# EAGLE library part IC54 (library THU VIEN MOI)
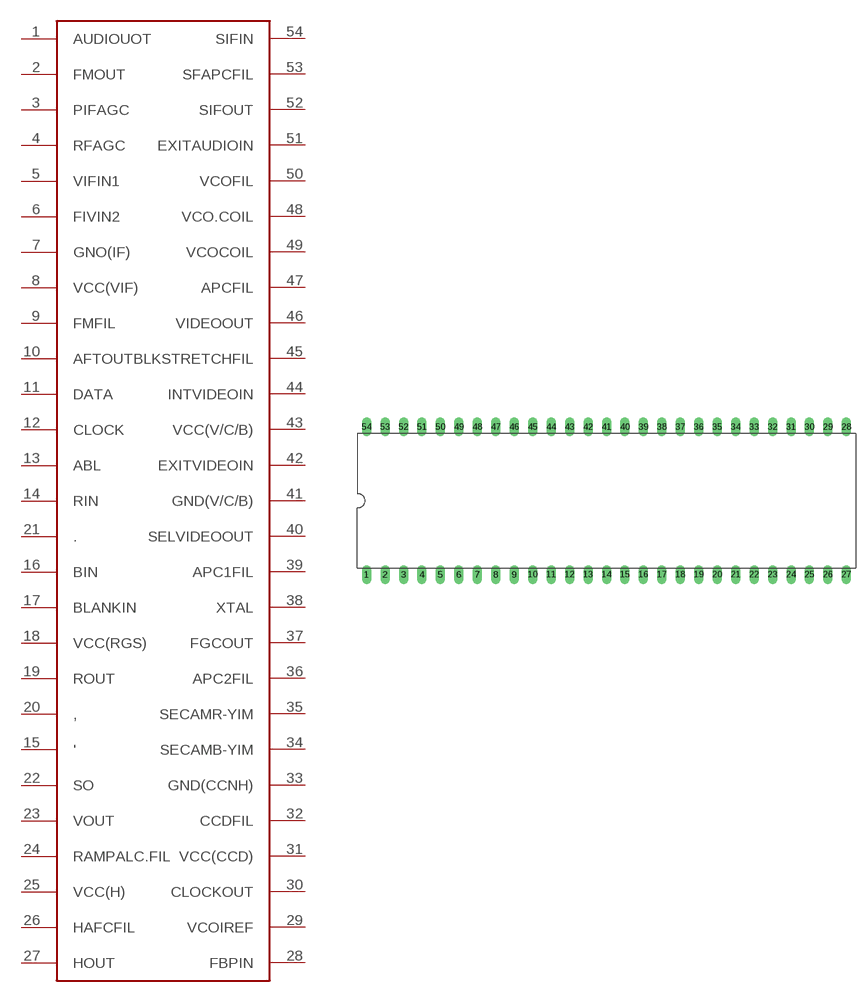
[diagram p0: symbol with the pads of IC54; footprint IC54]

Designator prefix -

## IC54W  [IC54]
1  AUDIOUOT
2  FMOUT
3  PIFAGC
4  RFAGC
5  VIFIN1
6  FIVIN2
7  GNO(IF)
8  VCC(VIF)
9  FMFIL
10  AFTOUT
11  DATA
12  CLOCK
13  ABL
14  RIN
15  '
16  BIN
17  BLANKIN
18  VCC(RGS)
19  ROUT
20  ,
21  .
22  SO
23  VOUT
24  RAMPALC.FIL
25  VCC(H)
26  HAFCFIL
27  HOUT
28  FBPIN
29  VCOIREF
30  CLOCKOUT
31  VCC(CCD)
32  CCDFIL
33  GND(CCNH)
34  SECAMB-YIM
35  SECAMR-YIM
36  APC2FIL
37  FGCOUT
38  XTAL
39  APC1FIL
40  SELVIDEOOUT
41  GND(V/C/B)
42  EXITVIDEOIN
43  VCC(V/C/B)
44  INTVIDEOIN
45  BLKSTRETCHFIL
46  VIDEOOUT
47  APCFIL
48  VCO.COIL
49  VCOCOIL
50  VCOFIL
51  EXITAUDIOIN
52  SIFOUT
53  SFAPCFIL
54  SIFIN

## Footprint IC54 (pad centres in mm)
drill 0.813 long: 1 -11.43,-6.35; 2 -8.89,-6.35; 3 -6.35,-6.35; 4 -3.81,-6.35; 5 -1.27,-6.35; 6 1.27,-6.35; 7 3.81,-6.35; 48 3.81,13.97; 49 1.27,13.97; 50 -1.27,13.97; 51 -3.81,13.97; 52 -6.35,13.97; 53 -8.89,13.97; 54 -11.43,13.97
drill 0.8 long: 8 6.35,-6.35; 9 8.89,-6.35; 10 11.43,-6.35; 11 13.97,-6.35; 12 16.51,-6.35; 13 19.05,-6.35; 14 21.59,-6.35; 15 24.13,-6.35; 16 26.67,-6.35; 17 29.21,-6.35; 18 31.75,-6.35; 19 34.29,-6.35; 20 36.83,-6.35; 21 39.37,-6.35; 22 41.91,-6.35; 23 44.45,-6.35; 24 46.99,-6.35; 25 49.53,-6.35; 26 52.07,-6.35; 27 54.61,-6.35; 28 54.61,13.97; 29 52.07,13.97; 30 49.53,13.97; 31 46.99,13.97; 32 44.45,13.97; 33 41.91,13.97; 34 39.37,13.97; 35 36.83,13.97; 36 34.29,13.97; 37 31.75,13.97; 38 29.21,13.97; 39 26.67,13.97; 40 24.13,13.97; 41 21.59,13.97; 42 19.05,13.97; 43 16.51,13.97; 44 13.97,13.97; 45 11.43,13.97; 46 8.89,13.97; 47 6.35,13.97